# EAGLE library part MCP73831T-2ACI/MC (library RTR Main Library)
MCP73831T-2ACI/MC Charge Controller
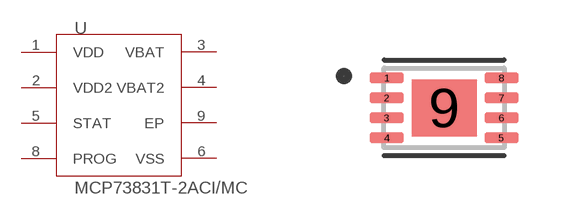
[diagram p3: symbol with the pads of SON50P200X300X100-9N; footprint SON50P200X300X100-9N]

Designator prefix U

## MCP73831T-2ACI/MC  [SON50P200X300X100-9N]
1  VDD  pwr
2  VDD2  pwr
3  VBAT  pwr
4  VBAT2  pwr
5  STAT
6  VSS  pwr
8  PROG
9  EP  pwr

## Footprint SON50P200X300X100-9N (pad centres in mm)
smd 0.84 x 0.27: 1 -1.435,0.75; 2 -1.435,0.25; 3 -1.435,-0.25; 4 -1.435,-0.75; 5 1.435,-0.75; 6 1.435,-0.25; 7 1.435,0.25; 8 1.435,0.75
smd 1.625 x 1.425: 9 0,0